# Altium schematic symbol library Diodes.SchLib: 8 symbols
Pins are listed as number, name and electrical type; pins without a type are passive.

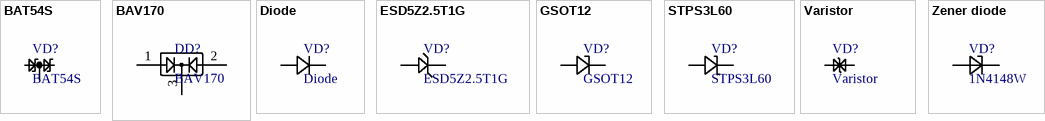
[diagram p0: symbols BAT54S to Zener diode]

## BAT54S
designator VD?
2x schottky barrier
footprint SOT-23-3
pins: 1 K, 2 A, 3 (power)

## BAV170
designator DD?
Dual Diode Common Cathode SOT23
footprint SOT-23-3
pins: 1 VDD, 2 VDD, 3

## Diode
designator VD?
SMD diode
footprint D0805
footprint D0603
footprint D0402
footprint D1206
footprint SOD-323
footprint SOD-123 (SOD-123 diode package)
footprint DO214 (Diode Body 6 x 4 mm (LxW typ))
footprint SMB (SMB diode package)
pins: 1 K, 2 A

## ESD5Z2.5T1G
designator VD?
ESD protection diode ON Semi ESD5Z2.5T1G
footprint SOD-523 (Diode case SOD-523)
pins: 1, 2

## GSOT12
designator VD?
TVD Diode
footprint SOT-23-3
pins: 1 K, 3 A

## STPS3L60
designator VD?
ST diode
footprint SMB (SMB diode package)
pins: 1 K, 2 A

## Varistor
designator VD?
footprint D0603
footprint D0805
pins: 1, 2

## Zener diode
designator VD?, comment 1N4148W
SMD Zener diode
footprint D0805
footprint D0603
footprint D0402
footprint D1206
pins: 1 K, 2 A